# Altium footprint library TB6612FNG_O_C_8_EL.PcbLib: 2 footprints
Each footprint in its own frame and in the unit in brackets; x right, y up, seen from the top. Pads: shape width x height; smd on the part's side, far side on the other; paste and mask are expansions set on the pad; w line width, h text height; cw(c..) or ccw(c..) is an arc to the next point about the centre after c.
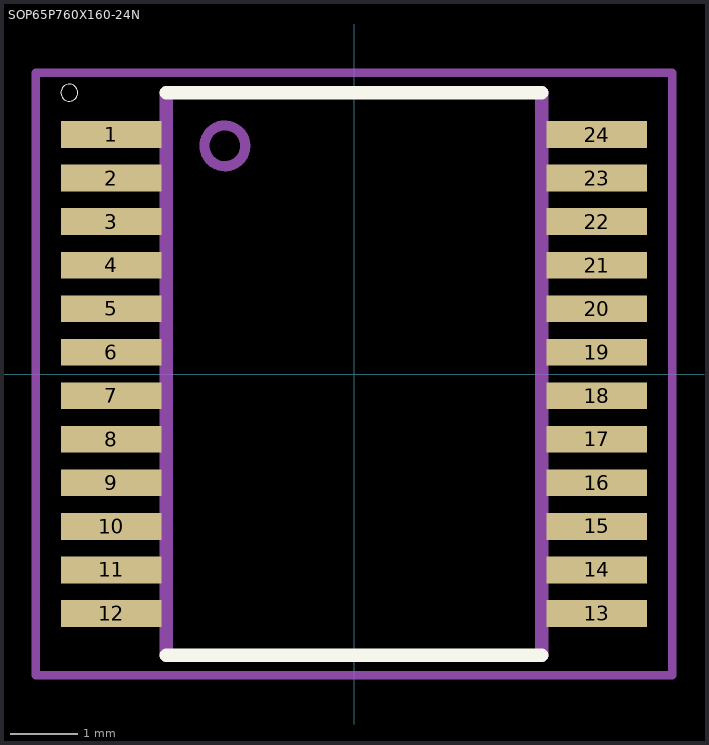
[diagram p0: the footprints below, top view; thin cyan lines are the x and y axes]

## PCBComponent_1 [mm]

## SOP65P760X160-24N [mm]
pads (24):
  rect 1.5x0.4 smd: 1(-3.625,3.575) 2(-3.625,2.925) 3(-3.625,2.275) 4(-3.625,1.625) 5(-3.625,0.975) 6(-3.625,0.325) 7(-3.625,-0.325) 8(-3.625,-0.975) 9(-3.625,-1.625) 10(-3.625,-2.275) 11(-3.625,-2.925) 12(-3.625,-3.575) 13(3.625,-3.575) 14(3.625,-2.925) 15(3.625,-2.275) 16(3.625,-1.625) 17(3.625,-0.975) 18(3.625,-0.325) 19(3.625,0.325) 20(3.625,0.975) 21(3.625,1.625) 22(3.625,2.275) 23(3.625,2.925) 24(3.625,3.575)
Top Overlay:
  circle w0: c-4.25,4.2 r0.127
  lines w0.203: -2.8,-4.2 2.8,-4.2 ; -2.8,4.2 2.8,4.2
Mechanical 1:
  circle w0.152: c-1.928,3.406 r0.305
  region: 2.805,-2.125 3.8,-2.125 3.8,-2.429 2.805,-2.429
  region: 2.806,1.775 3.8,1.775 3.8,1.478 2.806,1.478
  region: 3.8,-0.477 2.809,-0.477 2.809,-0.175 3.8,-0.175
  region: 3.8,-1.128 2.808,-1.128 2.808,-0.825 3.8,-0.825
  region: 3.8,-1.779 2.807,-1.779 2.807,-1.475 3.8,-1.475
  region: 3.8,-3.086 2.81,-3.086 2.81,-2.775 3.8,-2.775
  region: 3.8,-3.732 2.806,-3.732 2.806,-3.425 3.8,-3.425
  region: 3.8,3.429 2.803,3.429 2.803,3.725 3.8,3.725
  region: 3.8,2.78 2.805,2.78 2.805,3.075 3.8,3.075
  region: 3.8,2.129 2.806,2.129 2.806,2.425 3.8,2.425
  region: 3.8,0.826 2.803,0.826 2.803,1.125 3.8,1.125
  region: 3.8,0.175 2.808,0.175 2.808,0.475 3.8,0.475
  region: -3.81,-3.425 -2.8,-3.425 -2.8,-3.735 -3.81,-3.735
  region: -3.809,-2.775 -2.8,-2.775 -2.8,-3.082 -3.809,-3.082
  region: -3.807,-2.125 -2.8,-2.125 -2.8,-2.429 -3.807,-2.429
  region: -3.802,-1.475 -2.8,-1.475 -2.8,-1.776 -3.802,-1.776
  region: -3.811,-0.825 -2.8,-0.825 -2.8,-1.128 -3.811,-1.128
  region: -3.807,-0.175 -2.8,-0.175 -2.8,-0.476 -3.807,-0.476
  region: -3.807,0.475 -2.8,0.475 -2.8,0.175 -3.807,0.175
  region: -3.807,1.125 -2.8,1.125 -2.8,0.827 -3.807,0.827
  region: -3.802,1.775 -2.8,1.775 -2.8,1.476 -3.802,1.476
  region: -3.813,2.425 -2.8,2.425 -2.8,2.132 -3.813,2.132
  region: -3.808,3.075 -2.8,3.075 -2.8,2.781 -3.808,2.781
  region: -3.807,3.725 -2.8,3.725 -2.8,3.432 -3.807,3.432
  lines w0.127: -4.75,-4.5 -4.75,4.5 4.75,4.5 4.75,-4.5 -4.75,-4.5
  lines w0.203: -2.8,-4.2 -2.8,4.2 ; 2.8,-4.2 2.8,4.2